# EAGLE library part CONNECTORHEADERTHROUGHHOLE6POSITION0.079"(2.00MM) (library FA3D_lib)
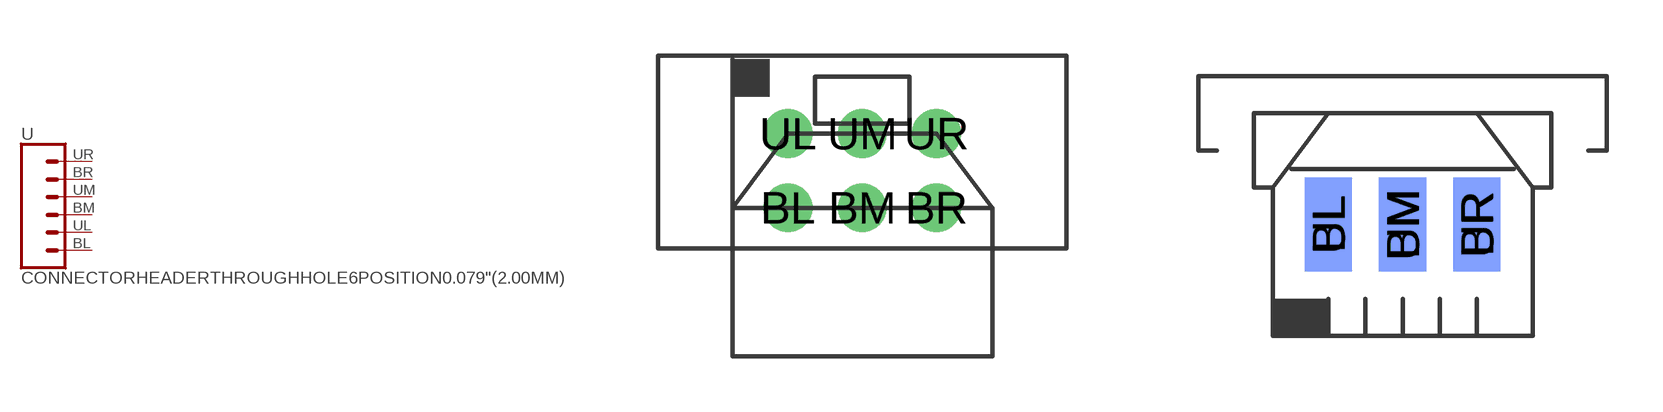
[diagram p17: symbol with the pads of 2X3_2MMPITCH; footprints 2X3_2MMPITCH, 2X3_2MMPITCH_BOARDEDGE]

Designator prefix -

## CONNECTORHEADERTHROUGHHOLE6POSITION0.079"(2.00MM)  [2X3_2MMPITCH]
BL  1  pas
BM  3  pas
BR  5  pas
UL  2  pas
UM  4  pas
UR  6  pas

## CONNECTORHEADERTHROUGHHOLE6POSITION0.079"(2.00MM)BOARD_EDGE_OVERHANG  [2X3_2MMPITCH_BOARDEDGE]
Pads as for 2X3_2MMPITCH

## Footprint 2X3_2MMPITCH (pad centres in mm)
drill 0.8: BL -2,-1; BM 0,-1; BR 2,-1; UL -2,1; UM 0,1; UR 2,1

## Footprint 2X3_2MMPITCH_BOARDEDGE (pad centres in mm)
smd 1.27 x 2.54: BL -2,-2; BM 0,-2; BR 2,-2
smd 1.27 x 2.54 bottom: UL -2,-2; UM 0,-2; UR 2,-2